# Altium footprint library WR-WTB.PcbLib: 259 footprints (part 13 of 17)
Each footprint in its own frame and in the unit in brackets; x right, y up, seen from the top. Pads: shape width x height; smd on the part's side, far side on the other; paste and mask are expansions set on the pad; w line width, h text height; cw(c..) or ccw(c..) is an arc to the next point about the centre after c.
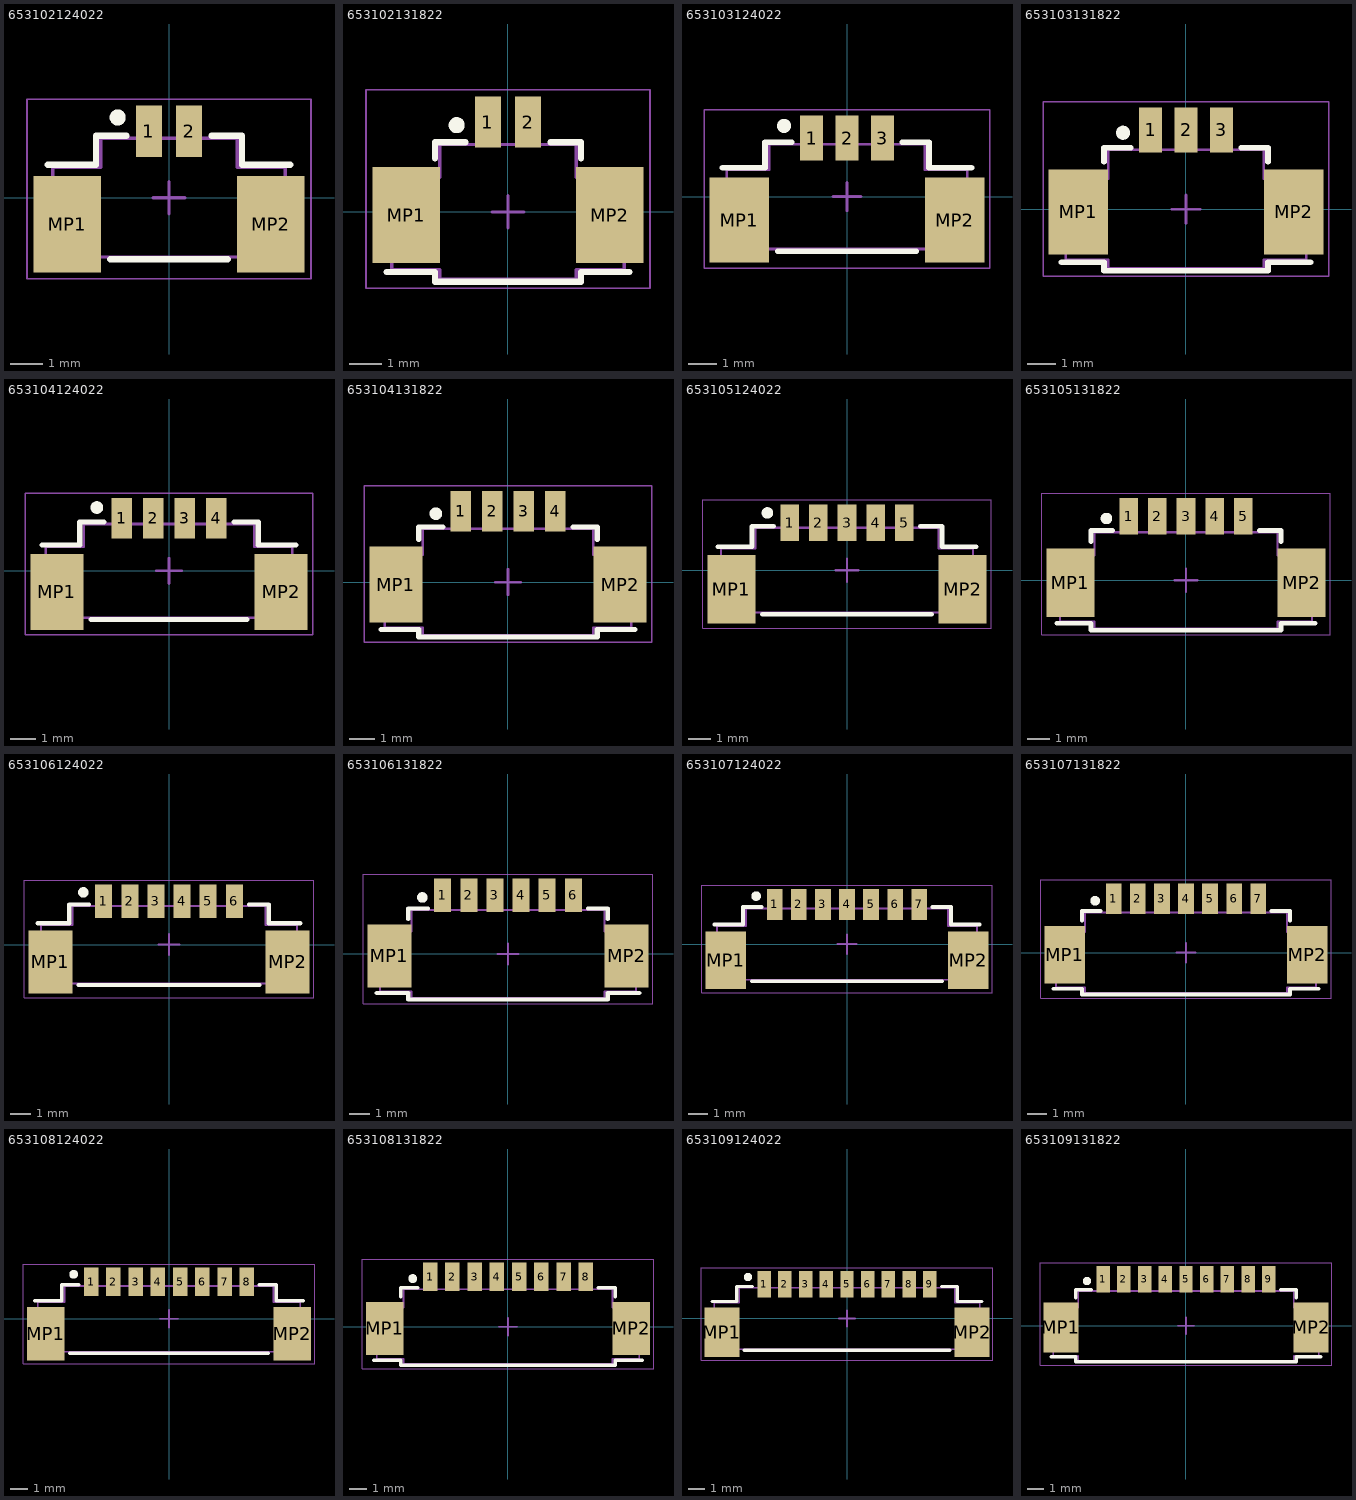
[diagram p12: the footprints below, top view; thin cyan lines are the x and y axes]

## 653102124022 [mm] "1.25mm SMT Male Vertical Shrouded Header, 2p"
height 4.75
pads (4):
  rect 0.81x1.6 smd: 1(-0.625,2.07) 2(0.625,2.07)
  rect 2.1x3 smd: MP1(-3.175,-0.83) MP2(3.175,-0.83)
Top Overlay:
  circle w0.25: c-1.6,2.5 r0.125
  lines w0.2: -3.775,1.025 -2.275,1.025 -2.275,1.925 -1.325,1.925 ; -1.825,-1.925 1.825,-1.925 ; 1.325,1.925 2.275,1.925 2.275,1.025 3.775,1.025
Top Assembly:
  lines w0.1: -3.625,-1.85 3.625,-1.85 3.625,0.95 2.125,0.95 2.125,1.85 -2.125,1.85 -2.125,0.95 -3.625,0.95 -3.625,-1.85
Top Designator:
  text ".Designator" at -3.647,-0.357 h1
Top Courtyard:
  lines w0.05: -4.425,-2.53 4.425,-2.53 4.425,3.07 -4.425,3.07 -4.425,-2.53
Top Component Center:
  lines w0.1: -0.5,0 0.5,0 ; 0,-0.5 0,0.5
3D body "653102124022.stp": height 4.74, standoff -0.01, extent -3.725,-1.85 3.725,2.355

## 653102131822 [mm] "1.25mm SMT Male Horizontal Shrouded Header, 2p"
height 3.4
pads (4):
  rect 0.81x1.6 smd: 1(-0.625,2.8) 2(0.625,2.8)
  rect 2.1x3 smd: MP1(-3.175,-0.1) MP2(3.175,-0.1)
Top Overlay:
  circle w0.25: c-1.6,2.7 r0.125
  lines w0.2: -3.775,-1.875 -2.275,-1.875 -2.275,-2.175 2.275,-2.175 2.275,-1.875 3.775,-1.875 ; -2.275,1.675 -2.275,2.175 -1.325,2.175 ; 1.325,2.175 2.275,2.175 2.275,1.675
Top Assembly:
  lines w0.1: -3.625,-1.78 -3.625,1.08 -2.125,1.08 -2.125,2.1 2.125,2.1 2.125,1.08 3.625,1.08 3.625,-1.78 ; -3.605,-1.8 -2.125,-1.8 -2.125,-2.1 2.125,-2.1 2.125,-1.8 3.605,-1.8
Top Designator:
  text ".Designator" at -3.647,-0.357 h1
Top Courtyard:
  lines w0.05: -4.425,-2.375 4.425,-2.375 4.425,3.8 -4.425,3.8 -4.425,-2.375
Top Component Center:
  lines w0.1: -0.5,0 0.5,0 ; 0,-0.5 0,0.5
3D body "653102131822.stp": height 3.4, standoff -0.01, extent -3.625,-2.1 3.625,3.3

## 653103124022 [mm] "1.25mm SMT Male Vertical Shrouded Header, 3p"
height 4.75
pads (5):
  rect 0.81x1.6 smd: 1(-1.25,2.07) 2(0,2.07) 3(1.25,2.07)
  rect 2.1x3 smd: MP1(-3.8,-0.83) MP2(3.8,-0.83)
Top Overlay:
  circle w0.25: c-2.225,2.5 r0.125
  lines w0.2: -4.4,1.025 -2.9,1.025 -2.9,1.925 -1.95,1.925 ; -2.45,-1.925 2.45,-1.925 ; 1.95,1.925 2.9,1.925 2.9,1.025 4.4,1.025
Top Assembly:
  lines w0.1: -4.25,-1.85 4.25,-1.85 4.25,0.95 2.75,0.95 2.75,1.85 -2.75,1.85 -2.75,0.95 -4.25,0.95 -4.25,-1.85
Top Designator:
  text ".Designator" at -3.647,-0.357 h1
Top Courtyard:
  lines w0.05: -5.05,-2.53 5.05,-2.53 5.05,3.07 -5.05,3.07 -5.05,-2.53
Top Component Center:
  lines w0.1: -0.5,0 0.5,0 ; 0,-0.5 0,0.5
3D body "653103124022.stp": height 4.74, standoff -0.01, extent -4.35,-1.85 4.35,2.355

## 653103131822 [mm] "1.25mm SMT Male Horizontal Shrouded Header, 3p"
height 3.4
pads (5):
  rect 0.81x1.6 smd: 1(-1.25,2.8) 2(0,2.8) 3(1.25,2.8)
  rect 2.1x3 smd: MP1(-3.8,-0.1) MP2(3.8,-0.1)
Top Overlay:
  circle w0.25: c-2.225,2.7 r0.125
  lines w0.2: -4.4,-1.875 -2.9,-1.875 -2.9,-2.175 2.9,-2.175 2.9,-1.875 4.4,-1.875 ; -2.9,1.675 -2.9,2.175 -1.95,2.175 ; 1.95,2.175 2.9,2.175 2.9,1.675
Top Assembly:
  lines w0.1: -4.25,-1.78 -4.25,1.08 -2.75,1.08 -2.75,2.1 2.75,2.1 2.75,1.08 4.25,1.08 4.25,-1.78 ; -4.23,-1.8 -2.75,-1.8 -2.75,-2.1 2.75,-2.1 2.75,-1.8 4.23,-1.8
Top Designator:
  text ".Designator" at -3.647,-0.357 h1
Top Courtyard:
  lines w0.05: -5.05,-2.375 -5.05,3.8 5.05,3.8 5.05,-2.375 -5.05,-2.375
Top Component Center:
  lines w0.1: -0.5,0 0.5,0 ; 0,-0.5 0,0.5
3D body "653103131822.stp": height 3.4, standoff -0.01, extent -4.25,-2.1 4.25,3.3

## 653104124022 [mm] "1.25mm SMT Male Vertical Shrouded Header, 4p"
height 4.75
pads (6):
  rect 0.81x1.6 smd: 1(-1.875,2.07) 2(-0.625,2.07) 3(0.625,2.07) 4(1.875,2.07)
  rect 2.1x3 smd: MP1(-4.425,-0.83) MP2(4.425,-0.83)
Top Overlay:
  circle w0.25: c-2.85,2.5 r0.125
  lines w0.2: -5.025,1.025 -3.525,1.025 -3.525,1.925 -2.575,1.925 ; -3.075,-1.925 3.075,-1.925 ; 2.575,1.925 3.525,1.925 3.525,1.025 5.025,1.025
Top Assembly:
  lines w0.1: -4.875,-1.85 -4.875,0.95 -3.375,0.95 -3.375,1.85 3.375,1.85 3.375,0.95 4.875,0.95 4.875,-1.85 -4.875,-1.85
Top Designator:
  text ".Designator" at -3.647,-0.357 h1
Top Courtyard:
  lines w0.05: -5.675,-2.53 -5.675,3.07 5.675,3.07 5.675,-2.53 -5.675,-2.53
Top Component Center:
  lines w0.1: -0.5,0 0.5,0 ; 0,-0.5 0,0.5
3D body "653104124022.stp": height 4.74, standoff -0.01, extent -4.975,-1.85 4.975,2.355

## 653104131822 [mm] "1.25mm SMT Male Horizontal Shrouded Header, 4p"
height 3.4
pads (6):
  rect 0.81x1.6 smd: 1(-1.875,2.8) 2(-0.625,2.8) 3(0.625,2.8) 4(1.875,2.8)
  rect 2.1x3 smd: MP1(-4.425,-0.1) MP2(4.425,-0.1)
Top Overlay:
  circle w0.25: c-2.85,2.7 r0.125
  lines w0.2: -5.025,-1.875 -3.525,-1.875 -3.525,-2.175 3.525,-2.175 3.525,-1.875 5.025,-1.875 ; -3.525,1.675 -3.525,2.175 -2.575,2.175 ; 2.575,2.175 3.525,2.175 3.525,1.675
Top Assembly:
  lines w0.1: -4.875,-1.78 -4.875,1.08 -3.375,1.08 -3.375,2.1 3.375,2.1 3.375,1.08 4.875,1.08 4.875,-1.78 ; -4.855,-1.8 -3.375,-1.8 -3.375,-2.1 3.375,-2.1 3.375,-1.8 4.855,-1.8
Top Designator:
  text ".Designator" at -3.647,-0.357 h1
Top Courtyard:
  lines w0.05: -5.675,-2.375 -5.675,3.8 5.675,3.8 5.675,-2.375 -5.675,-2.375
Top Component Center:
  lines w0.1: -0.5,0 0.5,0 ; 0,-0.5 0,0.5
3D body "653104131822.stp": height 3.4, standoff -0.01, extent -4.875,-2.1 4.875,3.3

## 653105124022 [mm] "1.25mm SMT Male Vertical Shrouded Header, 5p"
height 4.75
pads (7):
  rect 0.81x1.6 smd: 1(-2.5,2.07) 2(-1.25,2.07) 3(0,2.07) 4(1.25,2.07) 5(2.5,2.07)
  rect 2.1x3 smd: MP1(-5.05,-0.83) MP2(5.05,-0.83)
Top Overlay:
  circle w0.25: c-3.475,2.5 r0.125
  lines w0.2: -5.65,1.025 -4.15,1.025 -4.15,1.925 -3.2,1.925 ; -3.7,-1.925 3.7,-1.925 ; 3.2,1.925 4.15,1.925 4.15,1.025 5.65,1.025
Top Assembly:
  lines w0.1: -5.5,-1.85 -5.5,0.95 -4,0.95 -4,1.85 4,1.85 4,0.95 5.5,0.95 5.5,-1.85 -5.5,-1.85
Top Designator:
  text ".Designator" at -3.647,-0.357 h1
Top Courtyard:
  lines w0.05: -6.3,-2.53 -6.3,3.07 6.3,3.07 6.3,-2.53 -6.3,-2.53
Top Component Center:
  lines w0.1: -0.5,0 0.5,0 ; 0,-0.5 0,0.5
3D body "653105124022.stp": height 4.74, standoff -0.01, extent -5.6,-1.85 5.6,2.355

## 653105131822 [mm] "1.25mm SMT Male Horizontal Shrouded Header, 5p"
height 3.4
pads (7):
  rect 0.81x1.6 smd: 1(-2.5,2.8) 2(-1.25,2.8) 3(0,2.8) 4(1.25,2.8) 5(2.5,2.8)
  rect 2.1x3 smd: MP1(-5.05,-0.1) MP2(5.05,-0.1)
Top Overlay:
  circle w0.25: c-3.475,2.7 r0.125
  lines w0.2: -5.65,-1.875 -4.15,-1.875 -4.15,-2.175 4.15,-2.175 4.15,-1.875 5.65,-1.875 ; -4.15,1.675 -4.15,2.175 -3.2,2.175 ; 3.2,2.175 4.15,2.175 4.15,1.675
Top Assembly:
  lines w0.1: -5.5,-1.78 -5.5,1.08 -4,1.08 -4,2.1 4,2.1 4,1.08 5.5,1.08 5.5,-1.78 ; -5.48,-1.8 -4,-1.8 -4,-2.1 4,-2.1 4,-1.8 5.48,-1.8
Top Designator:
  text ".Designator" at -3.647,-0.357 h1
Top Courtyard:
  lines w0.05: -6.3,-2.375 6.3,-2.375 6.3,3.8 -6.3,3.8 -6.3,-2.375
Top Component Center:
  lines w0.1: -0.5,0 0.5,0 ; 0,-0.5 0,0.5
3D body "653105131822.stp": height 3.4, standoff -0.01, extent -5.5,-2.1 5.5,3.3

## 653106124022 [mm] "1.25mm SMT Male Vertical Shrouded Header, 6p"
height 4.75
pads (8):
  rect 0.81x1.6 smd: 1(-3.125,2.07) 2(-1.875,2.07) 3(-0.625,2.07) 4(0.625,2.07) 5(1.875,2.07) 6(3.125,2.07)
  rect 2.1x3 smd: MP1(-5.675,-0.83) MP2(5.675,-0.83)
Top Overlay:
  circle w0.25: c-4.1,2.5 r0.125
  lines w0.2: -6.275,1.025 -4.775,1.025 -4.775,1.925 -3.825,1.925 ; -4.325,-1.925 4.325,-1.925 ; 3.825,1.925 4.775,1.925 4.775,1.025 6.275,1.025
Top Assembly:
  lines w0.1: -6.125,-1.85 6.125,-1.85 6.125,0.95 4.625,0.95 4.625,1.85 -4.625,1.85 -4.625,0.95 -6.125,0.95 -6.125,-1.85
Top Designator:
  text ".Designator" at -3.647,-0.357 h1
Top Courtyard:
  lines w0.05: -6.925,-2.53 6.925,-2.53 6.925,3.07 -6.925,3.07 -6.925,-2.53
Top Component Center:
  lines w0.1: -0.5,0 0.5,0 ; 0,-0.5 0,0.5
3D body "653106124022.stp": height 4.74, standoff -0.01, extent -6.225,-1.85 6.225,2.355

## 653106131822 [mm] "1.25mm SMT Male Horizontal Shrouded Header, 6p"
height 3.4
pads (8):
  rect 0.81x1.6 smd: 1(-3.125,2.8) 2(-1.875,2.8) 3(-0.625,2.8) 4(0.625,2.8) 5(1.875,2.8) 6(3.125,2.8)
  rect 2.1x3 smd: MP1(-5.675,-0.1) MP2(5.675,-0.1)
Top Overlay:
  circle w0.25: c-4.1,2.7 r0.125
  lines w0.2: -6.275,-1.875 -4.775,-1.875 -4.775,-2.175 4.775,-2.175 4.775,-1.875 6.275,-1.875 ; -4.775,1.675 -4.775,2.175 -3.825,2.175 ; 3.825,2.175 4.775,2.175 4.775,1.675
Top Assembly:
  lines w0.1: -6.125,-1.78 -6.125,1.08 -4.625,1.08 -4.625,2.1 4.625,2.1 4.625,1.08 6.125,1.08 6.125,-1.78 ; -6.105,-1.8 -4.625,-1.8 -4.625,-2.1 4.625,-2.1 4.625,-1.8 6.105,-1.8
Top Designator:
  text ".Designator" at -3.647,-0.357 h1
Top Courtyard:
  lines w0.05: -6.925,-2.375 -6.925,3.8 6.925,3.8 6.925,-2.375 -6.925,-2.375
Top Component Center:
  lines w0.1: -0.5,0 0.5,0 ; 0,-0.5 0,0.5
3D body "653106131822.stp": height 3.4, standoff -0.01, extent -6.125,-2.1 6.125,3.3

## 653107124022 [mm] "1.25mm SMT Male Vertical Shrouded Header, 7p"
height 4.75
pads (9):
  rect 0.81x1.6 smd: 1(-3.75,2.07) 2(-2.5,2.07) 3(-1.25,2.07) 4(0,2.07) 5(1.25,2.07) 6(2.5,2.07) 7(3.75,2.07)
  rect 2.1x3 smd: MP1(-6.3,-0.83) MP2(6.3,-0.83)
Top Overlay:
  circle w0.25: c-4.725,2.5 r0.125
  lines w0.2: -6.9,1.025 -5.4,1.025 -5.4,1.925 -4.45,1.925 ; -4.95,-1.925 4.95,-1.925 ; 4.45,1.925 5.4,1.925 5.4,1.025 6.9,1.025
Top Assembly:
  lines w0.1: -6.75,-1.85 -6.75,0.95 -5.25,0.95 -5.25,1.85 5.25,1.85 5.25,0.95 6.75,0.95 6.75,-1.85 -6.75,-1.85
Top Designator:
  text ".Designator" at -3.647,-0.357 h1
Top Courtyard:
  lines w0.05: -7.55,-2.53 -7.55,3.07 7.55,3.07 7.55,-2.53 -7.55,-2.53
Top Component Center:
  lines w0.1: -0.5,0 0.5,0 ; 0,-0.5 0,0.5
3D body "653107124022.stp": height 4.74, standoff -0.01, extent -6.85,-1.85 6.85,2.355

## 653107131822 [mm] "1.25mm SMT Male Horizontal Shrouded Header, 7p"
height 3.4
pads (9):
  rect 0.81x1.6 smd: 1(-3.75,2.8) 2(-2.5,2.8) 3(-1.25,2.8) 4(0,2.8) 5(1.25,2.8) 6(2.5,2.8) 7(3.75,2.8)
  rect 2.1x3 smd: MP1(-6.3,-0.1) MP2(6.3,-0.1)
Top Overlay:
  circle w0.25: c-4.725,2.7 r0.125
  lines w0.2: -6.9,-1.875 -5.4,-1.875 -5.4,-2.175 5.4,-2.175 5.4,-1.875 6.9,-1.875 ; -5.4,1.675 -5.4,2.175 -4.45,2.175 ; 4.45,2.175 5.4,2.175 5.4,1.675
Top Assembly:
  lines w0.1: -6.75,-1.78 -6.75,1.08 -5.25,1.08 -5.25,2.1 5.25,2.1 5.25,1.08 6.75,1.08 6.75,-1.78 ; -6.73,-1.8 -5.25,-1.8 -5.25,-2.1 5.25,-2.1 5.25,-1.8 6.73,-1.8
Top Designator:
  text ".Designator" at -3.647,-0.357 h1
Top Courtyard:
  lines w0.05: -7.55,-2.375 -7.55,3.8 7.55,3.8 7.55,-2.375 -7.55,-2.375
Top Component Center:
  lines w0.1: -0.5,0 0.5,0 ; 0,-0.5 0,0.5
3D body "653107131822.stp": height 3.4, standoff -0.01, extent -6.75,-2.1 6.75,3.3

## 653108124022 [mm] "1.25mm SMT Male Vertical Shrouded Header, 8p"
height 4.75
pads (10):
  rect 0.81x1.6 smd: 1(-4.375,2.07) 2(-3.125,2.07) 3(-1.875,2.07) 4(-0.625,2.07) 5(0.625,2.07) 6(1.875,2.07) 7(3.125,2.07) 8(4.375,2.07)
  rect 2.1x3 smd: MP1(-6.925,-0.83) MP2(6.925,-0.83)
Top Overlay:
  circle w0.25: c-5.35,2.5 r0.125
  lines w0.2: -7.525,1.025 -6.025,1.025 -6.025,1.925 -5.075,1.925 ; -5.575,-1.925 5.575,-1.925 ; 5.075,1.925 6.025,1.925 6.025,1.025 7.525,1.025
Top Assembly:
  lines w0.1: -7.375,-1.85 7.375,-1.85 7.375,0.95 5.875,0.95 5.875,1.85 -5.875,1.85 -5.875,0.95 -7.375,0.95 -7.375,-1.85
Top Designator:
  text ".Designator" at -3.647,-0.357 h1
Top Courtyard:
  lines w0.05: -8.175,-2.53 8.175,-2.53 8.175,3.07 -8.175,3.07 -8.175,-2.53
Top Component Center:
  lines w0.1: -0.5,0 0.5,0 ; 0,-0.5 0,0.5
3D body "653108124022.stp": height 4.74, standoff -0.01, extent -7.475,-1.85 7.475,2.355

## 653108131822 [mm] "1.25mm SMT Male Horizontal Shrouded Header, 8p"
height 3.4
pads (10):
  rect 0.81x1.6 smd: 1(-4.375,2.8) 2(-3.125,2.8) 3(-1.875,2.8) 4(-0.625,2.8) 5(0.625,2.8) 6(1.875,2.8) 7(3.125,2.8) 8(4.375,2.8)
  rect 2.1x3 smd: MP1(-6.925,-0.1) MP2(6.925,-0.1)
Top Overlay:
  circle w0.25: c-5.35,2.7 r0.125
  lines w0.2: -7.525,-1.875 -6.025,-1.875 -6.025,-2.175 6.025,-2.175 6.025,-1.875 7.525,-1.875 ; -6.025,1.675 -6.025,2.175 -5.075,2.175 ; 5.075,2.175 6.025,2.175 6.025,1.675
Top Assembly:
  lines w0.1: -7.375,-1.78 -7.375,1.08 -5.875,1.08 -5.875,2.1 5.875,2.1 5.875,1.08 7.375,1.08 7.375,-1.78 ; -7.355,-1.8 -5.875,-1.8 -5.875,-2.1 5.875,-2.1 5.875,-1.8 7.355,-1.8
Top Designator:
  text ".Designator" at -3.647,-0.357 h1
Top Courtyard:
  lines w0.05: -8.175,-2.375 8.175,-2.375 8.175,3.8 -8.175,3.8 -8.175,-2.375
Top Component Center:
  lines w0.1: -0.5,0 0.5,0 ; 0,-0.5 0,0.5
3D body "653108131822.stp": height 3.4, standoff -0.01, extent -7.375,-2.1 7.375,3.3

## 653109124022 [mm] "1.25mm SMT Male Vertical Shrouded Header, 9p"
height 4.75
pads (11):
  rect 0.81x1.6 smd: 1(-5,2.07) 2(-3.75,2.07) 3(-2.5,2.07) 4(-1.25,2.07) 5(0,2.07) 6(1.25,2.07) 7(2.5,2.07) 8(3.75,2.07) 9(5,2.07)
  rect 2.1x3 smd: MP1(-7.55,-0.83) MP2(7.55,-0.83)
Top Overlay:
  circle w0.25: c-5.975,2.5 r0.125
  lines w0.2: -8.15,1.025 -6.65,1.025 -6.65,1.925 -5.7,1.925 ; -6.2,-1.925 6.2,-1.925 ; 5.7,1.925 6.65,1.925 6.65,1.025 8.15,1.025
Top Assembly:
  lines w0.1: -8,-1.85 -8,0.95 -6.5,0.95 -6.5,1.85 6.5,1.85 6.5,0.95 8,0.95 8,-1.85 -8,-1.85
Top Designator:
  text ".Designator" at -3.647,-0.357 h1
Top Courtyard:
  lines w0.05: -8.8,-2.53 -8.8,3.07 8.8,3.07 8.8,-2.53 -8.8,-2.53
Top Component Center:
  lines w0.1: -0.5,0 0.5,0 ; 0,-0.5 0,0.5
3D body "653109124022.stp": height 4.74, standoff -0.01, extent -8.1,-1.85 8.1,2.355

## 653109131822 [mm] "1.25mm SMT Male Horizontal Shrouded Header, 9p"
height 3.4
pads (11):
  rect 0.81x1.6 smd: 1(-5,2.8) 2(-3.75,2.8) 3(-2.5,2.8) 4(-1.25,2.8) 5(0,2.8) 6(1.25,2.8) 7(2.5,2.8) 8(3.75,2.8) 9(5,2.8)
  rect 2.1x3 smd: MP1(-7.55,-0.1) MP2(7.55,-0.1)
Top Overlay:
  circle w0.25: c-5.975,2.7 r0.125
  lines w0.2: -8.15,-1.875 -6.65,-1.875 -6.65,-2.175 6.65,-2.175 6.65,-1.875 8.15,-1.875 ; -6.65,1.675 -6.65,2.175 -5.7,2.175 ; 5.7,2.175 6.65,2.175 6.65,1.675
Top Assembly:
  lines w0.1: -8,-1.78 -8,1.08 -6.5,1.08 -6.5,2.1 6.5,2.1 6.5,1.08 8,1.08 8,-1.78 ; -7.98,-1.8 -6.5,-1.8 -6.5,-2.1 6.5,-2.1 6.5,-1.8 7.98,-1.8
Top Designator:
  text ".Designator" at -3.647,-0.357 h1
Top Courtyard:
  lines w0.05: -8.8,-2.375 8.8,-2.375 8.8,3.8 -8.8,3.8 -8.8,-2.375
Top Component Center:
  lines w0.1: -0.5,0 0.5,0 ; 0,-0.5 0,0.5
3D body "653109131822.stp": height 3.4, standoff -0.01, extent -8,-2.1 8,3.3